# EAGLE library part ADA4853-3 (library ads4)
Analog Devices Triple High-Speed Op-Amp
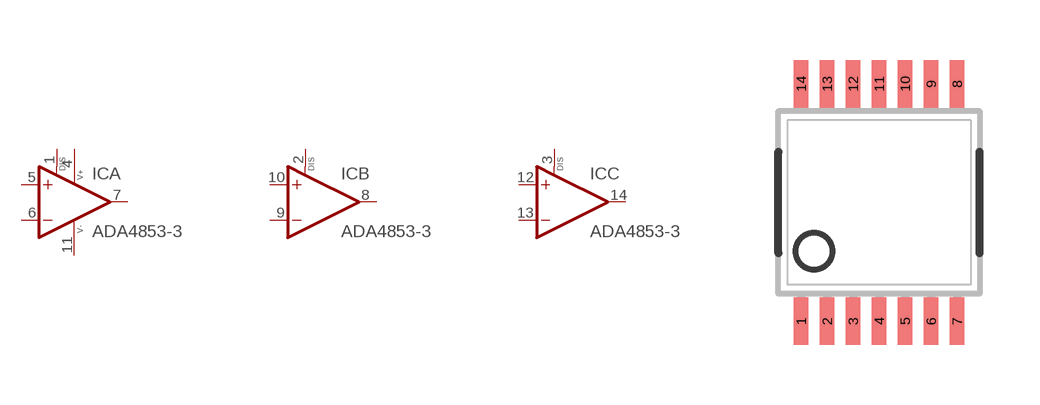
[diagram p86: symbol with the pads of TSSOP14; footprint TSSOP14]

Designator prefix IC; gates A=OPAMP+-_DISABLE B=OPAMP_DISABLE C=OPAMP_DISABLE

## ADA4853-3YRUZ  [TSSOP14]
1  A:DISABLE  pas
2  B:DISABLE  pas
3  C:DISABLE  pas
4  A:V+  pwr
5  A:+IN  in
6  A:-IN  in
7  A:OUT  out
8  B:OUT  out
9  B:-IN  in
10  B:+IN  in
11  A:V-  pwr
12  C:+IN  in
13  C:-IN  in
14  C:OUT  out

## Footprint TSSOP14 (pad centres in mm)
Thin Shrink Small Outline Plastic 14 Copied from ref-packages.lbr. Modified according to recommended layout for Analog Devices RU-14 TSSOP-14 package.
smd 0.36 x 1.19: 1 -1.95,-2.97; 2 -1.3,-2.97; 3 -0.65,-2.97; 4 0,-2.97; 5 0.65,-2.97; 6 1.3,-2.97; 7 1.95,-2.97; 8 1.95,2.97; 9 1.3,2.97; 10 0.65,2.97; 11 0,2.97; 12 -0.65,2.97; 13 -1.3,2.97; 14 -1.95,2.97